# Altium footprint library LED_SMD.PcbLib: 19 footprints (part 1 of 2)
Each footprint in its own frame and in the unit in brackets; x right, y up, seen from the top. Pads: shape width x height; smd on the part's side, far side on the other; paste and mask are expansions set on the pad; w line width, h text height; cw(c..) or ccw(c..) is an arc to the next point about the centre after c.
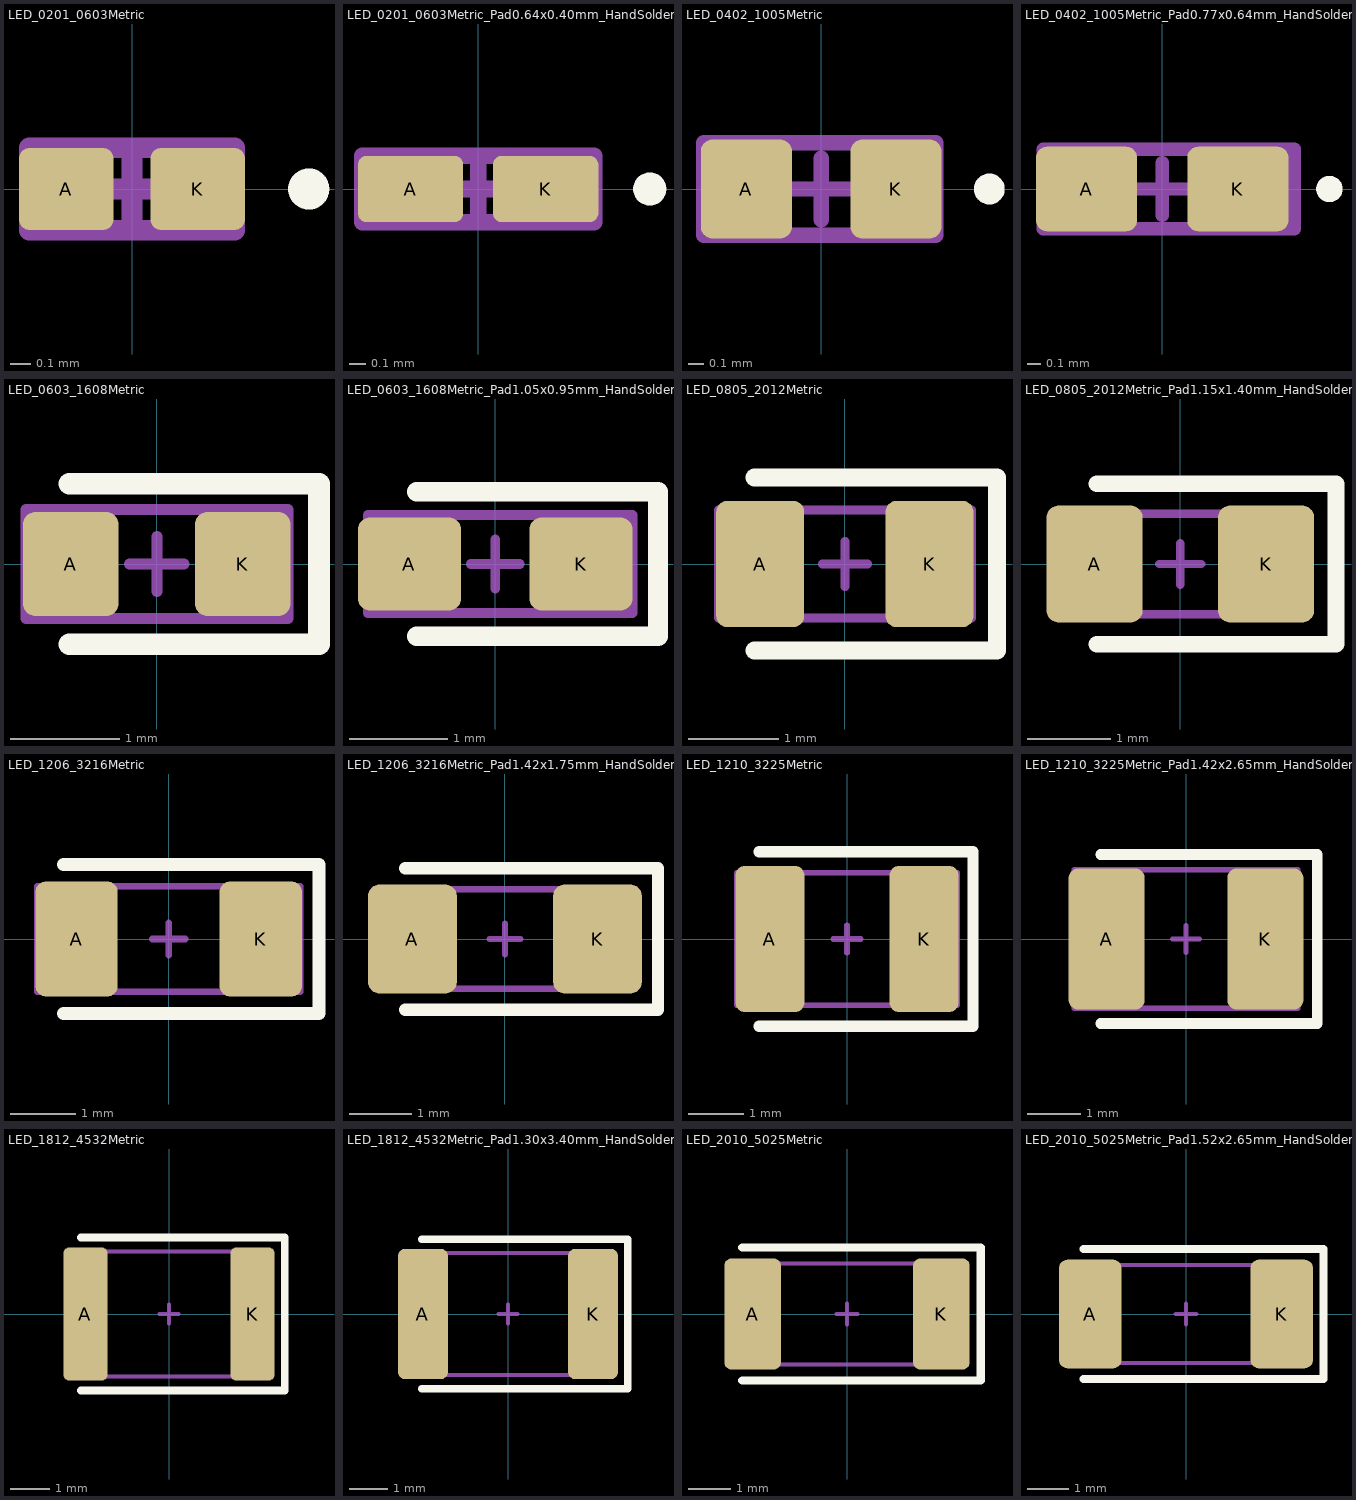
[diagram p0: the footprints below, top view; thin cyan lines are the x and y axes]

## LED_0201_0603Metric [mm] "LED SMD 0201 (0603 Metric)"
pads (2):
  rrect25% 0.46x0.4 smd mask+0.05: A(-0.32,0) K(0.32,0)
Top Overlay:
  circle w0.1: c0.86,0 r0.05
Top Assembly:
  rectangle: 0.2,-0.2 0.5,0.2
  lines w0.1: -0.5,-0.2 0.5,-0.2 0.5,0.2 -0.5,0.2 -0.5,-0.2
Top Component Center:
  lines w0.1: -0.2,0 0.2,0 ; 0,-0.2 0,0.2
Top Designator:
  text ".Designator" at -7.618,-0.508 h1.52
3D body "LED_0201_0603Metric.step": height 0.21, standoff 0.01, extent -0.325,-0.175 0.325,0.175

## LED_0201_0603Metric_Pad0.64x0.40mm_HandSolder [mm] "LED 0201 (0603 Metric) width Pad 0.64x0.40mm for Hand Solder"
pads (2):
  rrect25% 0.635x0.4 smd mask+0.05: A(-0.407,0) K(0.407,0)
Top Overlay:
  circle w0.1: c1.035,0 r0.05
Top Assembly:
  rectangle: 0.4,-0.2 0.7,0.2
  lines w0.1: -0.7,-0.2 -0.7,0.2 0.7,0.2 0.7,-0.2 -0.7,-0.2
Top Component Center:
  lines w0.1: -0.2,0 0.2,0 ; 0,-0.2 0,0.2
Top Designator:
  text ".Designator" at -7.618,-0.508 h1.52
3D body "LED_0201_0603Metric.step": height 0.21, standoff 0.01, extent -0.325,-0.175 0.325,0.175

## LED_0402_1005Metric [mm] "LED SMD 0402 (1005 Metric)"
pads (2):
  rrect25% 0.59x0.64 smd mask+0.05: A(-0.485,0) K(0.485,0)
Top Overlay:
  circle w0.1: c1.09,0 r0.05
Top Assembly:
  rectangle: 0.4,-0.3 0.743,0.3
  lines w0.1: -0.762,-0.3 0.743,-0.3 0.743,0.3 -0.762,0.3 -0.762,-0.3
Top Component Center:
  lines w0.1: -0.2,0 0.2,0 ; 0,-0.2 0,0.2
Top Designator:
  text ".Designator" at -7.618,-0.508 h1.52
3D body "LED_0402_1005Metric.step": height 0.51, standoff 0.01, extent -0.5,-0.25 0.5,0.25

## LED_0402_1005Metric_Pad0.77x0.64mm_HandSolder [mm] "LED 0402 (1005 Metric) with Pad 0.77x0.64mm for Hand Solder"
pads (2):
  rrect25% 0.765x0.64 smd mask+0.05: A(-0.573,0) K(0.573,0)
Top Overlay:
  circle w0.1: c1.265,0 r0.05
Top Assembly:
  rectangle: 0.6,-0.3 1,0.3
  lines w0.1: -0.9,-0.3 -0.9,0.3 1,0.3 1,-0.3 -0.9,-0.3
Top Component Center:
  lines w0.1: -0.2,0 0.2,0 ; 0,-0.2 0,0.2
Top Designator:
  text ".Designator" at -7.618,-0.508 h1.52
3D body "LED_0402_1005Metric.step": height 0.51, standoff 0.01, extent -0.5,-0.25 0.5,0.25

## LED_0603_1608Metric [mm] "LED 0603 (1608 Metric)"
pads (2):
  rrect25% 0.875x0.95 smd mask+0.05: A(-0.787,0) K(0.787,0)
Top Overlay:
  lines w0.2: -0.8,-0.735 1.485,-0.735 1.485,0.735 -0.8,0.735
Top Assembly:
  rectangle: 0.7,-0.5 1.2,0.5
  lines w0.1: -1.2,-0.5 -1.2,0.5 1.2,0.5 1.2,-0.5 -1.2,-0.5
Top Component Center:
  lines w0.1: -0.25,0 0.25,0 ; 0,-0.25 0,0.25
Top Designator:
  text ".Designator" at -7.618,-0.508 h1.52
3D body "LED_0603_1608Metric_Castellated.step": height 1.11, standoff 0.01, extent -0.8,-0.4 0.8,0.4

## LED_0603_1608Metric_Pad1.05x0.95mm_HandSolder [mm] "LED 0603 (1608 Metric) with Pad 1.05x0.95mm for Hand Solder"
pads (2):
  rrect25% 1.05x0.95 smd mask+0.05: A(-0.875,0) K(0.875,0)
Top Overlay:
  lines w0.2: -0.8,-0.735 1.66,-0.735 1.66,0.735 -0.8,0.735
Top Assembly:
  rectangle: 0.8,-0.5 1.4,0.5
  lines w0.1: -1.3,-0.5 1.4,-0.5 1.4,0.5 -1.3,0.5 -1.3,-0.5
Top Component Center:
  lines w0.1: -0.25,0 0.25,0 ; 0,-0.25 0,0.25
Top Designator:
  text ".Designator" at -7.618,-0.508 h1.52
3D body "LED_0603_1608Metric_Castellated.step": height 1.11, standoff 0.01, extent -0.8,-0.4 0.8,0.4

## LED_0805_2012Metric [mm] "LED 0805 (2012 Metric)"
pads (2):
  rrect25% 0.975x1.4 smd mask+0.05: A(-0.937,0) K(0.937,0)
Top Overlay:
  lines w0.2: -1,-0.96 1.685,-0.96 1.685,0.96 -1,0.96
Top Assembly:
  rectangle: 0.8,-0.6 1.4,0.6
  lines w0.1: -1.4,-0.6 1.4,-0.6 1.4,0.6 -1.4,0.6 -1.4,-0.6
Top Component Center:
  lines w0.1: -0.25,0 0.25,0 ; 0,-0.25 0,0.25
Top Designator:
  text ".Designator" at -7.618,-0.508 h1.52
3D body "LED_0805_2012Metric_Castellated.step": height 1.11, standoff 0.01, extent -1,-0.625 1,0.625

## LED_0805_2012Metric_Pad1.15x1.40mm_HandSolder [mm] "LED 0805 (2012 Metric) with Pad 1.15x1.40mm for Hand Solder"
pads (2):
  rrect25% 1.15x1.4 smd mask+0.05: A(-1.025,0) K(1.025,0)
Top Overlay:
  lines w0.2: -1,-0.96 1.86,-0.96 1.86,0.96 -1,0.96
Top Assembly:
  rectangle: 0.9,-0.6 1.5,0.6
  lines w0.1: -1.5,-0.6 1.5,-0.6 1.5,0.6 -1.5,0.6 -1.5,-0.6
Top Component Center:
  lines w0.1: -0.25,0 0.25,0 ; 0,-0.25 0,0.25
Top Designator:
  text ".Designator" at -7.618,-0.508 h1.52
3D body "LED_0805_2012Metric_Castellated.step": height 1.11, standoff 0.01, extent -1,-0.625 1,0.625

## LED_1206_3216Metric [mm] "LED 1206 (3216 Metric)"
pads (2):
  rrect25% 1.25x1.75 smd mask+0.05: A(-1.4,0) K(1.4,0)
Top Overlay:
  lines w0.2: -1.6,-1.135 2.285,-1.135 2.285,1.135 -1.6,1.135
Top Assembly:
  rectangle: 1.4,-0.8 2,0.8
  lines w0.1: -2,-0.8 2,-0.8 2,0.8 -2,0.8 -2,-0.8
Top Component Center:
  lines w0.1: -0.25,0 0.25,0 ; 0,-0.25 0,0.25
Top Designator:
  text ".Designator" at -7.618,-0.508 h1.52
3D body "LED_1206_3216Metric_Castellated.step": height 1.11, standoff 0.01, extent -1.6,-0.8 1.6,0.8

## LED_1206_3216Metric_Pad1.42x1.75mm_HandSolder [mm] "LED 1206 (3216 Metric) with Pad 1.42x1.75mm for Hand Solder"
pads (2):
  rrect25% 1.425x1.75 smd mask+0.05: A(-1.488,0) K(1.488,0)
Top Overlay:
  lines w0.2: -1.6,-1.135 2.46,-1.135 2.46,1.135 -1.6,1.135
Top Assembly:
  rectangle: 1.5,-0.8 2.1,0.8
  lines w0.1: -2.1,-0.8 2.1,-0.8 2.1,0.8 -2.1,0.8 -2.1,-0.8
Top Component Center:
  lines w0.1: -0.25,0 0.25,0 ; 0,-0.25 0,0.25
Top Designator:
  text ".Designator" at -7.618,-0.508 h1.52
3D body "LED_1206_3216Metric_Castellated.step": height 1.11, standoff 0.01, extent -1.6,-0.8 1.6,0.8

## LED_1210_3225Metric [mm] "LED 1210 (3225 Metric)"
pads (2):
  rrect25% 1.25x2.65 smd mask+0.05: A(-1.4,0) K(1.4,0)
Top Overlay:
  lines w0.2: -1.6,-1.585 2.285,-1.585 2.285,1.585 -1.6,1.585
Top Assembly:
  rectangle: 1.4,-1.2 2,1.2
  lines w0.1: -2,-1.2 2,-1.2 2,1.2 -2,1.2 -2,-1.2
Top Component Center:
  lines w0.1: -0.25,0 0.25,0 ; 0,-0.25 0,0.25
Top Designator:
  text ".Designator" at -7.618,-0.508 h1.52
3D body "LED_1210_3225Metric_Castellated.step": height 1.11, standoff 0.01, extent -1.6,-1.25 1.6,1.25

## LED_1210_3225Metric_Pad1.42x2.65mm_HandSolder [mm] "LED 1210 (3225 Metric) with Pad 1.42x2.65mm for Hand Solder"
pads (2):
  rrect25% 1.425x2.65 smd mask+0.05: A(-1.488,0) K(1.488,0)
Top Overlay:
  lines w0.2: -1.6,-1.585 2.46,-1.585 2.46,1.585 -1.6,1.585
Top Assembly:
  rectangle: 1.5,-1.3 2.1,1.3
  lines w0.1: -2.1,-1.3 2.1,-1.3 2.1,1.3 -2.1,1.3 -2.1,-1.3
Top Component Center:
  lines w0.1: -0.25,0 0.25,0 ; 0,-0.25 0,0.25
Top Designator:
  text ".Designator" at -7.618,-0.508 h1.52
3D body "LED_1210_3225Metric_Castellated.step": height 1.11, standoff 0.01, extent -1.6,-1.25 1.6,1.25

## LED_1812_4532Metric [mm] "LED 1812 (4532 Metric)"
pads (2):
  rrect25% 1.125x3.4 smd mask+0.05: A(-2.137,0) K(2.137,0)
Top Overlay:
  lines w0.2: -2.25,-1.96 2.96,-1.96 2.96,1.935 ; -2.25,1.96 2.96,1.96
Top Assembly:
  rectangle: 1.8,-1.6 2.6,1.6
  lines w0.1: -2.6,-1.6 2.6,-1.6 2.6,1.6 -2.6,1.6 -2.6,-1.6
Top Component Center:
  lines w0.1: -0.25,0 0.25,0 ; 0,-0.25 0,0.25
Top Designator:
  text ".Designator" at -7.618,-0.508 h1.52
3D body "LED_1812_4532Metric_Castellated.step": height 1.51, standoff 0.01, extent -2.25,-1.6 2.25,1.6

## LED_1812_4532Metric_Pad1.30x3.40mm_HandSolder [mm] "LED 1812 (4532 Metric) for Pad 1.30x3.40mm for Hand Solder"
pads (2):
  rrect25% 1.3x3.4 smd mask+0.05: A(-2.225,0) K(2.225,0)
Top Overlay:
  lines w0.2: -2.25,-1.96 3.135,-1.96 3.135,1.96 -2.25,1.96
Top Assembly:
  rectangle: 2,-1.6 2.8,1.6
  lines w0.1: -2.8,-1.6 2.8,-1.6 2.8,1.6 -2.8,1.6 -2.8,-1.6
Top Component Center:
  lines w0.1: -0.25,0 0.25,0 ; 0,-0.25 0,0.25
Top Designator:
  text ".Designator" at -7.618,-0.508 h1.52
3D body "LED_1812_4532Metric_Castellated.step": height 1.51, standoff 0.01, extent -2.25,-1.6 2.25,1.6

## LED_2010_5025Metric [mm] "LED 2010 (5025 Metric)"
pads (2):
  rrect25% 1.35x2.65 smd mask+0.05: A(-2.25,0) K(2.25,0)
Top Overlay:
  lines w0.2: -2.5,-1.585 3.185,-1.585 3.185,1.585 -2.5,1.585
Top Assembly:
  rectangle: 2,-1.2 2.8,1.2
  lines w0.1: -2.8,-1.2 2.8,-1.2 2.8,1.2 -2.8,1.2 -2.8,-1.2
Top Component Center:
  lines w0.1: -0.25,0 0.25,0 ; 0,-0.25 0,0.25
Top Designator:
  text ".Designator" at -7.618,-0.508 h1.52
3D body "LED_2010_5025Metric_Castellated.step": height 1.51, standoff 0.01, extent -2.5,-1.25 2.5,1.25

## LED_2010_5025Metric_Pad1.52x2.65mm_HandSolder [mm] "LED 2010 (5025 Metric) with Pad1.52x2.65mm for Hand Solder"
pads (2):
  rrect25% 1.525x2.65 smd mask+0.05: A(-2.338,0) K(2.338,0)
Top Overlay:
  lines w0.2: -2.5,-1.585 3.36,-1.585 3.36,1.585 -2.5,1.585
Top Assembly:
  rectangle: 2.2,-1.2 3,1.2
  lines w0.1: -3,-1.2 3,-1.2 3,1.2 -3,1.2 -3,-1.2
Top Component Center:
  lines w0.1: -0.25,0 0.25,0 ; 0,-0.25 0,0.25
Top Designator:
  text ".Designator" at -7.618,-0.508 h1.52
3D body "LED_2010_5025Metric_Castellated.step": height 1.51, standoff 0.01, extent -2.5,-1.25 2.5,1.25